# EAGLE library part DSPIC33FJ06GS101-I/SO (library Microchip_By_element14_Batch_1)
16-bit Digital Signal Controllers
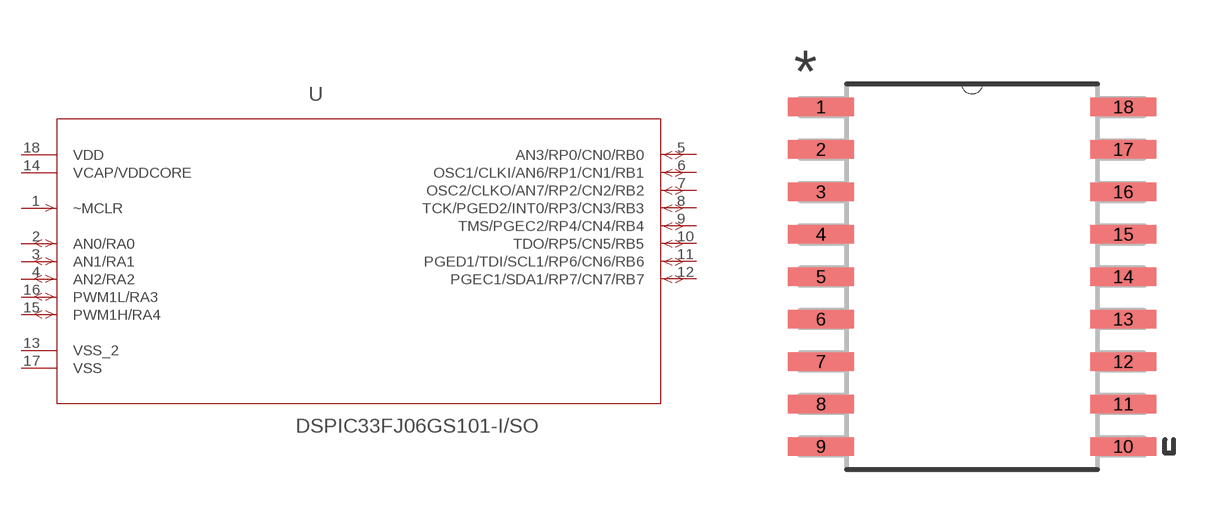
[diagram p330: symbol with the pads of SOIC127P1030X265-18N; footprint SOIC127P1030X265-18N]

Designator prefix -

## DSPIC33FJ06GS101-I/SO (DESCRIPTION: 16-Bit Digital Signal Controllers; MPN: DSPIC33FJ06GS101-I/SO; OC_FARNELL: 1778678; OC_NEWARK: 77M2311; PACKAGE: SOIC-18; SUPPLIER: Microchip)  [SOIC127P1030X265-18N]
1  ~MCLR  in
2  AN0/RA0
3  AN1/RA1
4  AN2/RA2
5  AN3/RP0/CN0/RB0
6  OSC1/CLKI/AN6/RP1/CN1/RB1
7  OSC2/CLKO/AN7/RP2/CN2/RB2
8  TCK/PGED2/INT0/RP3/CN3/RB3
9  TMS/PGEC2/RP4/CN4/RB4
10  TDO/RP5/CN5/RB5
11  PGED1/TDI/SCL1/RP6/CN6/RB6
12  PGEC1/SDA1/RP7/CN7/RB7
13  VSS_2  pwr
14  VCAP/VDDCORE  pwr
15  PWM1H/RA4
16  PWM1L/RA3
17  VSS  pwr
18  VDD  pwr

## Footprint SOIC127P1030X265-18N (pad centres in mm)
smd 1.981 x 0.559: 1 -4.521,5.08; 2 -4.521,3.81; 3 -4.521,2.54; 4 -4.521,1.27; 5 -4.521,0; 6 -4.521,-1.27; 7 -4.521,-2.54; 8 -4.521,-3.81; 9 -4.521,-5.08; 10 4.521,-5.08; 11 4.521,-3.81; 12 4.521,-2.54; 13 4.521,-1.27; 14 4.521,0; 15 4.521,1.27; 16 4.521,2.54; 17 4.521,3.81; 18 4.521,5.08